# EAGLE library part RX-8035LC (library ic-EPSON)
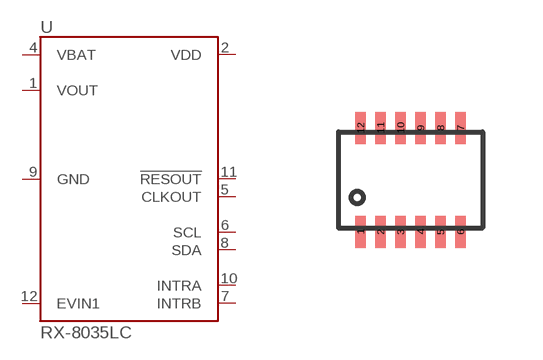
[diagram p0: symbol with the pads of VSOJ12; footprint VSOJ12]

Designator prefix U

## RX-8035LC  [VSOJ12]
1  VOUT
2  VDD
4  VBAT
5  CLKOUT
6  SCL
7  INTRB
8  SDA
9  GND
10  INTRA
11  !RESOUT
12  EVIN1

## Footprint VSOJ12 (pad centres in mm)
smd 0.27 x 0.8: 1 -1.25,-1.3; 2 -0.75,-1.3; 3 -0.25,-1.3; 4 0.25,-1.3; 5 0.75,-1.3; 6 1.25,-1.3; 7 1.25,1.3; 8 0.75,1.3; 9 0.25,1.3; 10 -0.25,1.3; 11 -0.75,1.3; 12 -1.25,1.3